# Altium footprint library PcbLib1.PcbLib: 9 footprints
Each footprint in its own frame and in the unit in brackets; x right, y up, seen from the top. Pads: shape width x height; smd on the part's side, far side on the other; paste and mask are expansions set on the pad; w line width, h text height; cw(c..) or ccw(c..) is an arc to the next point about the centre after c.
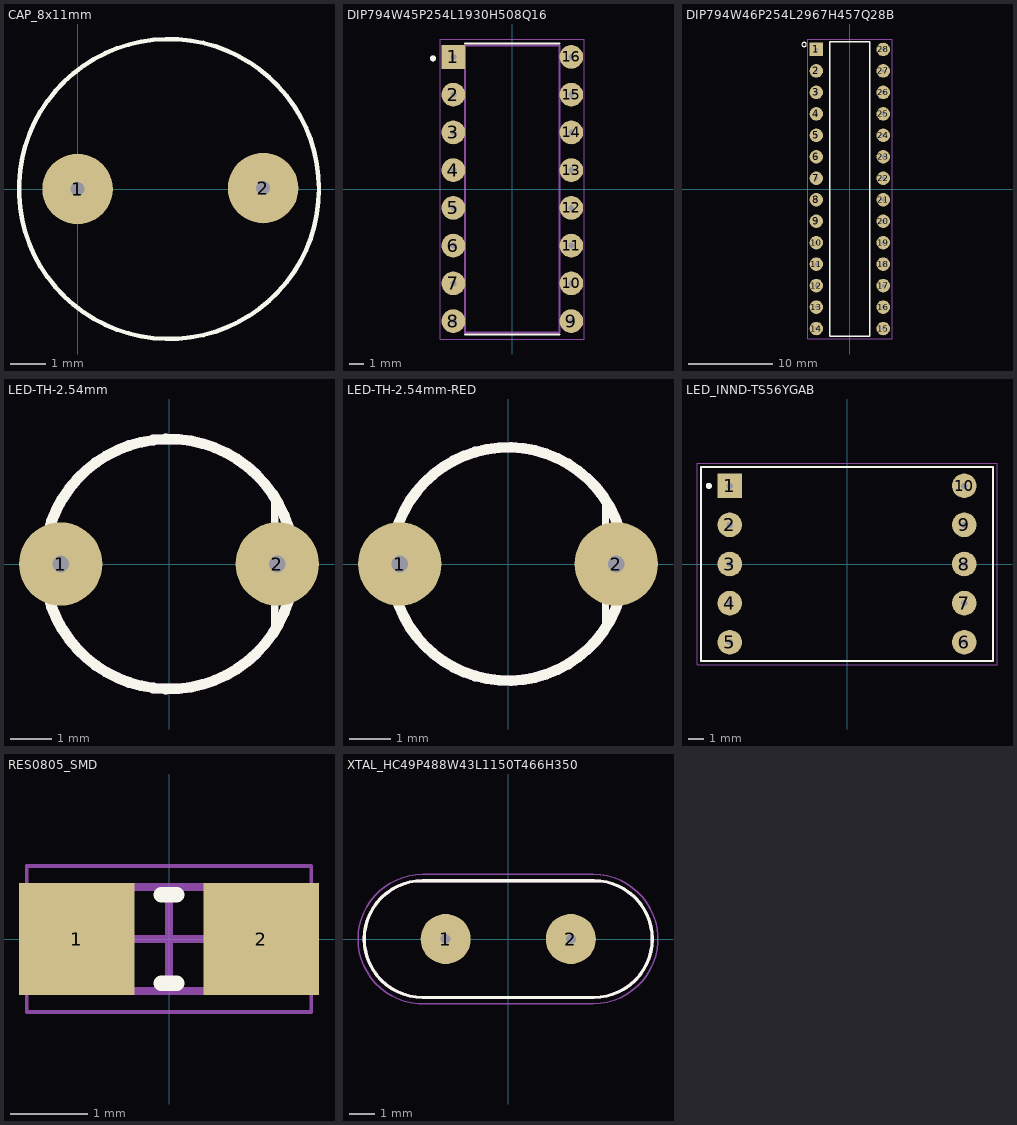
[diagram p0: the footprints below, top view; thin cyan lines are the x and y axes]

## CAP_8x11mm [mm]
pads (2):
  round 2 hole 0.4: 1(0,0) 2(5.258,0.025)
Top Overlay:
  circle w0.127: c2.591,0 r4.25
3D body "Nichicon MUSE 8x11,5.step": height 12.52, standoff -18.28, extent -1.371,-3.936 6.629,4.064

## DIP794W45P254L1930H508Q16 [mm]
height 5.08
pads (16):
  rect 1.6x1.6 hole 0.4: 1(-3.97,8.89)
  round 1.6 hole 0.4: 2(-3.97,6.35) 3(-3.97,3.81) 4(-3.97,1.27) 5(-3.97,-1.27) 6(-3.97,-3.81) 7(-3.97,-6.35) 8(-3.97,-8.89) 9(3.97,-8.89) 10(3.97,-6.35) 11(3.97,-3.81) 12(3.97,-1.27) 13(3.97,1.27) 14(3.97,3.81) 15(3.97,6.35) 16(3.97,8.89)
Top Overlay:
  circle w0.2: c-5.335,8.79 r0.1
  lines w0.127: -3.175,-9.78 3.175,-9.78 ; -3.175,9.78 3.175,9.78
Mechanical 13:
  circle w0.2: c-5.335,8.79 r0.1
  lines w0.127: -3.175,-9.653 -3.175,9.653 3.175,9.653 3.175,-9.653 -3.175,-9.653
Mechanical 15:
  lines w0.05: -4.86,-10.095 -4.86,10.095 4.86,10.095 4.86,-10.095 -4.86,-10.095
3D body "step_temp.STEP": height 5.08, standoff -3, extent -4.153,-9.653 4.153,9.653

## DIP794W46P254L2967H457Q28B [mm]
pads (28):
  rect 1.6x1.6 hole 0.4: 1(-3.96,16.51)
  round 1.6 hole 0.4: 2(-3.96,13.97) 3(-3.96,11.43) 4(-3.96,8.89) 5(-3.96,6.35) 6(-3.96,3.81) 7(-3.96,1.27) 8(-3.96,-1.27) 9(-3.96,-3.81) 10(-3.96,-6.35) 11(-3.96,-8.89) 12(-3.96,-11.43) 13(-3.96,-13.97) 14(-3.96,-16.51) 15(3.96,-16.51) 16(3.96,-13.97) 17(3.96,-11.43) 18(3.96,-8.89) 19(3.96,-6.35) 20(3.96,-3.81) 21(3.96,-1.27) 22(3.96,1.27) 23(3.96,3.81) 24(3.96,6.35) 25(3.96,8.89) 26(3.96,11.43) 27(3.96,13.97) 28(3.96,16.51)
Top Overlay:
  circle w0: c-5.4,17.1 r0.254
  lines w0.152: -2.38,-17.4 2.38,-17.4 2.38,17.4 -2.38,17.4 -2.38,-17.4
Mechanical 15:
  lines w0.05: -5,-17.75 -5,17.75 5,17.75 5,-17.75 -5,-17.75
3D body "ATMEGA328P-PU--3DModel-STEP-56544.STEP": height 4.57, standoff -3.43, extent -3.95,-17.323 3.95,17.348

## LED-TH-2.54mm [mm]
pads (2):
  round 2 hole 0.4: 1(-2.6,0) 2(2.6,0)
Top Overlay:
  circle w0.254: c0,0 r3
  lines w0.178: 2.541,-1.595 2.541,1.608
Top Courtyard:
  circle w0.254: c0,0 r3
3D body "LED, 5mm, red v4.step": height 8.9, standoff -28, extent -2.885,-3.001 2.616,2.896

## LED-TH-2.54mm-RED [mm]
pads (2):
  round 2 hole 0.4: 1(-2.6,0) 2(2.6,0)
Top Overlay:
  circle w0.254: c0,0 r2.8
  lines w0.178: 2.341,-1.495 2.341,1.505
Top Courtyard:
  circle w0.254: c0,0 r2.8
3D body "LED 3mm (Red).step": height 12.31, standoff -10.3, extent -2.724,-2.655 2.724,2.8

## LED_INND-TS56YGAB [mm]
height 8
pads (10):
  rect 1.6x1.6 hole 0.4: 1(-7.62,5.08)
  round 1.6 hole 0.4: 2(-7.62,2.54) 3(-7.62,0) 4(-7.62,-2.54) 5(-7.62,-5.08) 6(7.62,-5.08) 7(7.62,-2.54) 8(7.62,0) 9(7.62,2.54) 10(7.62,5.08)
Top Overlay:
  circle w0.2: c-8.98,5.08 r0.1
  lines w0.127: -9.5,-6.3 -9.5,6.3 9.5,6.3 9.5,-6.3 -9.5,-6.3
Mechanical 13:
  circle w0.2: c-8.98,5.08 r0.1
  lines w0.127: -9.5,-6.3 -9.5,6.3 9.5,6.3 9.5,-6.3 -9.5,-6.3
Mechanical 15:
  lines w0.05: -9.75,-6.55 -9.75,6.55 9.75,6.55 9.75,-6.55 -9.75,-6.55
3D body "INND-TS56YGAB.STEP": height 8.51, standoff -3.79, extent -9.5,-6.3 9.5,6.3

## PCBComponent_1 [mm]

## RES0805_SMD [mm]
height 0.6
pads (2):
  rect 1.5x1.45 smd: 1(-1.2,0) 2(1.2,0)
Top Overlay:
  lines w0.2: -0.1,-0.575 0.1,-0.575 ; -0.1,0.575 0.1,0.575
Top Assembly:
  lines w0.1: -1.05,-0.675 1.05,-0.675 1.05,0.675 -1.05,0.675 -1.05,-0.675
Top Courtyard:
  lines w0.05: -1.85,-0.95 1.85,-0.95 1.85,0.95 -1.85,0.95 -1.85,-0.95
  lines w0.1: -0.5,0 0.5,0 ; 0,-0.5 0,0.5
3D body "RES0805_SMD.step": height 0.6, standoff 0, extent -1.05,-0.675 1.05,0.675

## XTAL_HC49P488W43L1150T466H350 [mm]
pads (2):
  round 2 hole 0.4: 1(-2.5,0) 2(2.5,0)
Top Overlay:
  lines w0.127: -5.75,0 ccw(c-3.42,0) -3.42,-2.33 3.42,-2.33 ccw(c3.42,0) 5.75,0 ccw(c3.42,0) 3.42,2.33 -3.42,2.33 ccw(c-3.42,0) -5.75,0
Mechanical 13:
  lines w0.127: -5.75,0 ccw(c-3.42,0) -3.42,-2.33 3.42,-2.33 ccw(c3.42,0) 5.75,0 ccw(c3.42,0) 3.42,2.33 -3.42,2.33 ccw(c-3.42,0) -5.75,0
Mechanical 15:
  lines w0.05: -6,-0.005 cw(c-3.415,-0.005) -3.415,2.58 ; -6,0.005 ccw(c-3.413,0.005) -3.322,-2.581 ; -3.41,2.58 3.4,2.58 cw(c3.4,0) 3.4,-2.58 -3.3,-2.58
3D body "step_temp.STEP": height 3.5, standoff -20.1, extent -5.75,-2.33 5.75,2.33